# Altium footprint library USB-B.PcbLib: 1 footprints
Each footprint in its own frame and in the unit in brackets; x right, y up, seen from the top. Pads: shape width x height; smd on the part's side, far side on the other; paste and mask are expansions set on the pad; w line width, h text height; cw(c..) or ccw(c..) is an arc to the next point about the centre after c.
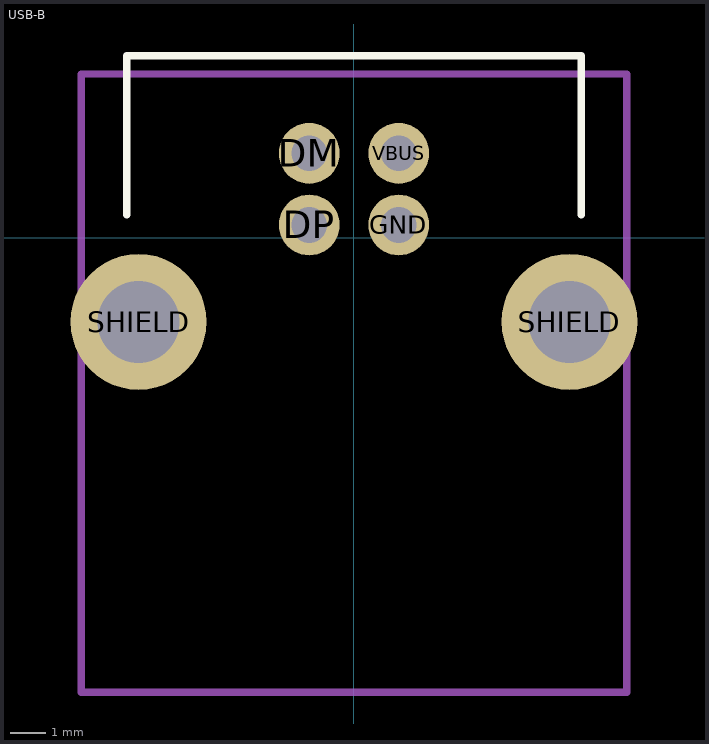
[diagram p0: the footprint, top view; thin cyan lines are the x and y axes]

## USB-B [mm]
pads (6):
  round 1.7 hole 1: DM(-1.25,2.355) DP(-1.25,0.355) GND(1.25,0.355) VBUS(1.25,2.355)
  round 3.8 hole 2.3: SHIELD(-6.02,-2.355) SHIELD(6.02,-2.355)
Top Overlay:
  lines w0.2: -6.35,0.635 -6.35,5.08 0,5.08 6.35,5.08 6.35,0.635
Mechanical 13:
  lines w0.2: -7.62,-12.7 7.62,-12.7 7.62,4.572 -7.62,4.572 -7.62,-12.7
  text ".Designator" at -3.111,-4.572 h2.5
3D body: height 11, standoff -4.42, extent -7.442,-12.555 7.442,4.445